# EAGLE library part M-UNIT (library andereBauteile)
C-CONTROL M-Unit Mikroprozessor von Conrad Elektronik www.conrad.de Mikrocontroller : MC68HC05B6 von MOTOROLA Programmierbar in BASIC oder PLUS ( graphisch ) 24 Byte RAM 16 I/O-Ports 2 Frequenzmesseingänge 1 DCF77 Eingang 8 Kanal 8-bit Analog/Digital Wandler Programmierung über serielle Schnittstelle
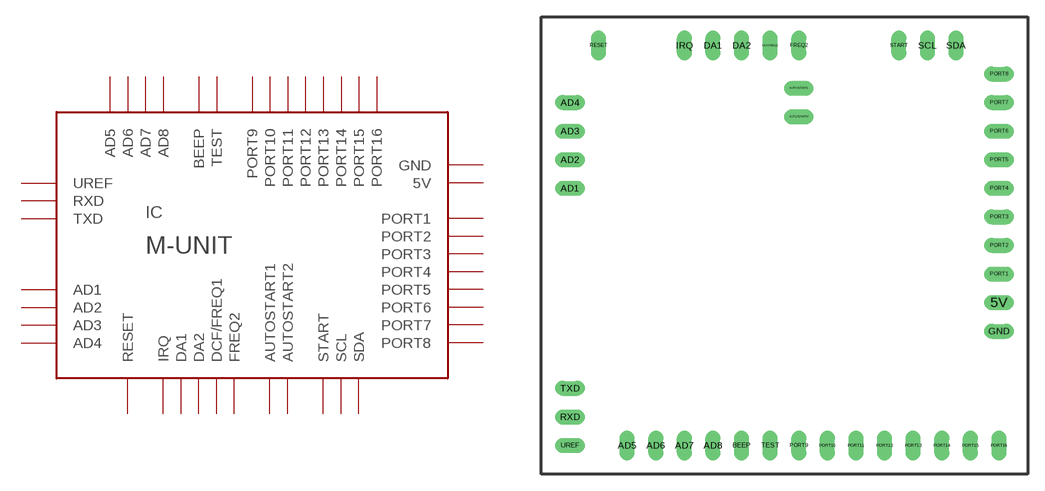
[diagram p2: symbol with the pads of M-UNIT; footprint M-UNIT]

Designator prefix IC

## M-UNIT  [M-UNIT]
5V  5V
AD1  AD1
AD2  AD2
AD3  AD3
AD4  AD4
AD5  AD5
AD6  AD6
AD7  AD7
AD8  AD8
AUTOSTART1  AUTOSTART1
AUTOSTART2  AUTOSTART2
BEEP  BEEP
DA1  DA1
DA2  DA2
DCF/FREQ1  DCF/FREQ1
FREQ2  FREQ2
GND  GND
IRQ  IRQ
PORT1  PORT1
PORT2  PORT2
PORT3  PORT3
PORT4  PORT4
PORT5  PORT5
PORT6  PORT6
PORT7  PORT7
PORT8  PORT8
PORT9  PORT9
PORT10  PORT10
PORT11  PORT11
PORT12  PORT12
PORT13  PORT13
PORT14  PORT14
PORT15  PORT15
PORT16  PORT16
RESET  RESET
RXD  RXD
SCL  SCL
SDA  SDA
START  START
TEST  TEST
TXD  TXD
UREF  UREF

## Footprint M-UNIT (pad centres in mm)
drill 0.813 long: 5V 19.05,-5.08; AD1 -19.05,5.08; AD2 -19.05,7.62; AD3 -19.05,10.16; AD4 -19.05,12.7; AD5 -13.97,-17.78; AD6 -11.43,-17.78; AD7 -8.89,-17.78; AD8 -6.35,-17.78; AUTOSTART1 1.27,13.97; AUTOSTART2 1.27,11.43; BEEP -3.81,-17.78; DA1 -6.35,17.78; DA2 -3.81,17.78; DCF/FREQ1 -1.27,17.78; FREQ2 1.27,17.78; GND 19.05,-7.62; IRQ -8.89,17.78; PORT1 19.05,-2.54; PORT2 19.05,0; PORT3 19.05,2.54; PORT4 19.05,5.08; PORT5 19.05,7.62; PORT6 19.05,10.16; PORT7 19.05,12.7; PORT8 19.05,15.24; PORT9 1.27,-17.78; PORT10 3.81,-17.78; PORT11 6.35,-17.78; PORT12 8.89,-17.78; PORT13 11.43,-17.78; PORT14 13.97,-17.78; PORT15 16.51,-17.78; PORT16 19.05,-17.78; RESET -16.51,17.78; RXD -19.05,-15.24; SCL 12.7,17.78; SDA 15.24,17.78; START 10.16,17.78; TEST -1.27,-17.78; TXD -19.05,-12.7; UREF -19.05,-17.78